# Altium footprint library CONNECTORS.PcbLib: 7 footprints
Each footprint in its own frame and in the unit in brackets; x right, y up, seen from the top. Pads: shape width x height; smd on the part's side, far side on the other; paste and mask are expansions set on the pad; w line width, h text height; cw(c..) or ccw(c..) is an arc to the next point about the centre after c.
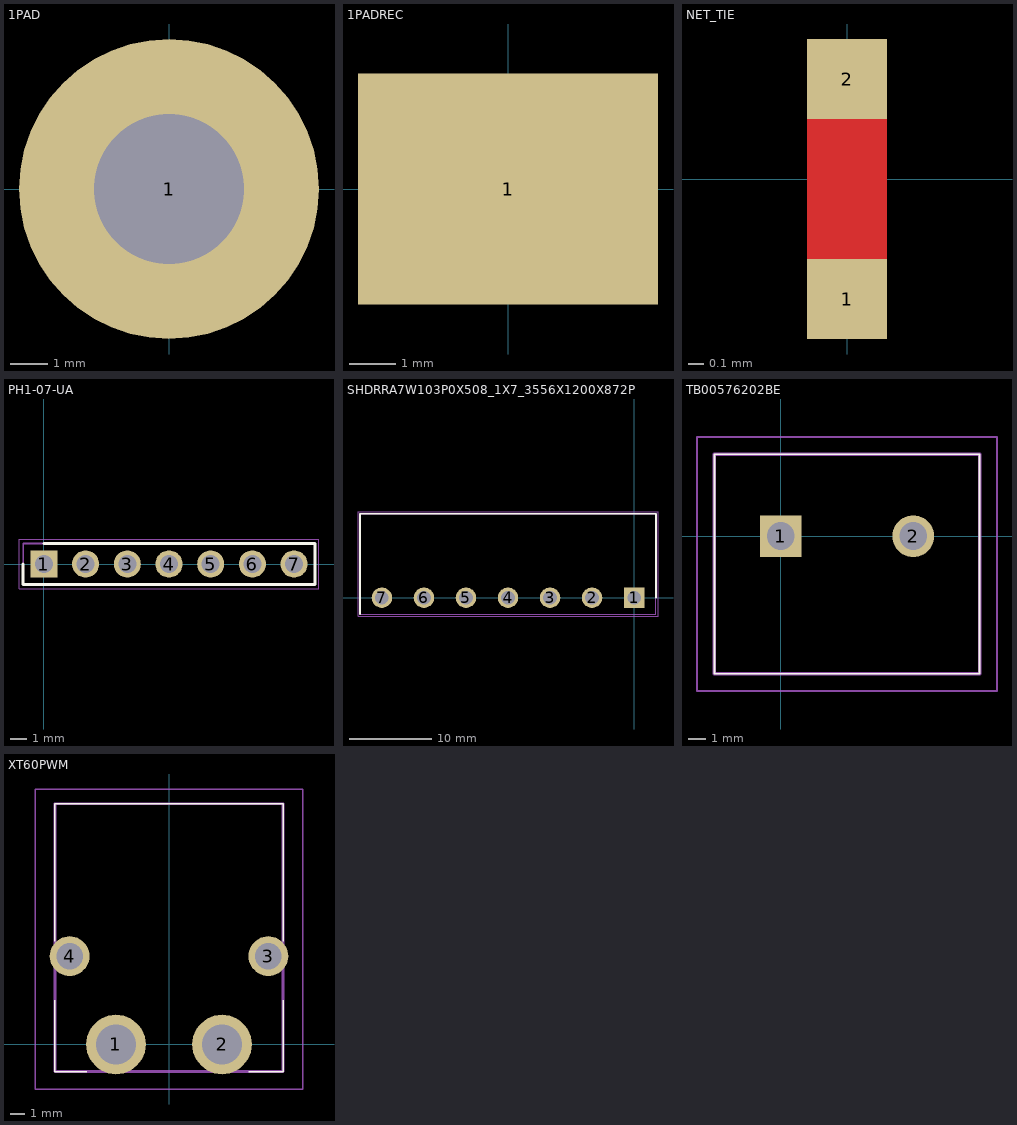
[diagram p0: the footprints below, top view; thin cyan lines are the x and y axes]

## 1PAD [mm] "1 Pad Connector"
pads (1):
  round 8 hole 4: 1(0,0)

## 1PADREC [mm] "1 Pad Rectangular Connector"
pads (1):
  rect 6.5x5 smd: 1(0,0)

## NET_TIE [mil]
pads (2):
  rect 20x20 smd mask-99999: 1(0,-30) 2(0,25)
Top Layer:
  rectangle: -10,-25 10,19.88
Top Solder:
  region: 0,-15

## PH1-07-UA [mm]
pads (7):
  rect 1.65x1.65 hole 1.1: 1(0,0)
  round 1.65 hole 1.1: 2(2.54,0) 3(5.08,0) 4(7.62,0) 5(10.16,0) 6(12.7,0) 7(15.24,0)
Top Overlay:
  lines w0.2: -1.27,0 -1.27,-1.25 16.51,-1.25 16.51,1.25 0,1.25
Mechanical 13:
  lines w0.1: -1.27,-1.25 -1.27,1.25 16.51,1.25 16.51,-1.25 -1.27,-1.25
Mechanical 15:
  lines w0.05: -1.52,-1.5 -1.52,1.5 16.76,1.5 16.76,-1.5 -1.52,-1.5
3D body "PH1-07-UA.stp": height 8.5, standoff -3.05, extent -1.27,-1.25 16.51,1.25

## SHDRRA7W103P0X508_1X7_3556X1200X872P [mm]
pads (7):
  rect 2.475x2.475 hole 1.65: 1(0,0)
  round 2.475 hole 1.65: 2(-5.08,0) 3(-10.16,0) 4(-15.24,0) 5(-20.32,0) 6(-25.4,0) 7(-30.48,0)
Top Overlay:
  lines w0.2: -33.12,-2 -33.12,10.15 2.64,10.15 2.64,0
Mechanical 13:
  lines w0.1: -33.12,-2 2.64,-2 2.64,10.15 -33.12,10.15 -33.12,-2
Mechanical 15:
  lines w0.05: -33.37,-2.25 2.89,-2.25 2.89,10.4 -33.37,10.4 -33.37,-2.25
3D body "1759062.stp": height 9.25, standoff -2.85, extent -33.02,-1.922 2.54,10.08

## TB00576202BE [mm]
pads (2):
  rect 2.4x2.4 hole 1.6: 1(0,0)
  round 2.4 hole 1.6: 2(7.62,0)
Top Overlay:
  lines w0.1: -3.81,-7.9 11.43,-7.9 11.43,4.7 -3.81,4.7 -3.81,-7.9
Mechanical 13:
  lines w0.2: -3.81,-7.9 11.43,-7.9 11.43,4.7 -3.81,4.7 -3.81,-7.9
Mechanical 15:
  lines w0.1: -4.81,-8.9 12.43,-8.9 12.43,5.7 -4.81,5.7 -4.81,-8.9
3D body "TB005-762-02BE.stp": height 21.7, standoff -4.75, extent -4.46,-7.9 11.38,4.7

## XT60PWM [mm]
pads (4):
  round 4.05 hole 2.7: 1(-3.6,0) 2(3.6,0)
  round 2.7 hole 1.8: 3(6.75,6) 4(-6.75,6)
Top Overlay:
  lines w0.1: -7.75,3 -7.75,-1.85 -5.6,-1.85 ; -7.75,7 -7.75,16.35 7.75,16.35 7.75,7 ; 5.4,-1.85 7.75,-1.85 7.75,3
Mechanical 13:
  lines w0.2: -7.75,-1.85 7.75,-1.85 7.75,16.35 -7.75,16.35 -7.75,-1.85
Mechanical 15:
  lines w0.1: -9.1,-3.025 9.1,-3.025 9.1,17.35 -9.1,17.35 -9.1,-3.025
3D body "XT60PW-M.stp": height 8.44, standoff -2.51, extent -7.95,-1.98 7.95,16.298